# Altium footprint library CP_RADIAL_D16.0_P7.5_H27.0.PcbLib: 1 footprints
Each footprint in its own frame and in the unit in brackets; x right, y up, seen from the top. Pads: shape width x height; smd on the part's side, far side on the other; paste and mask are expansions set on the pad; w line width, h text height; cw(c..) or ccw(c..) is an arc to the next point about the centre after c.
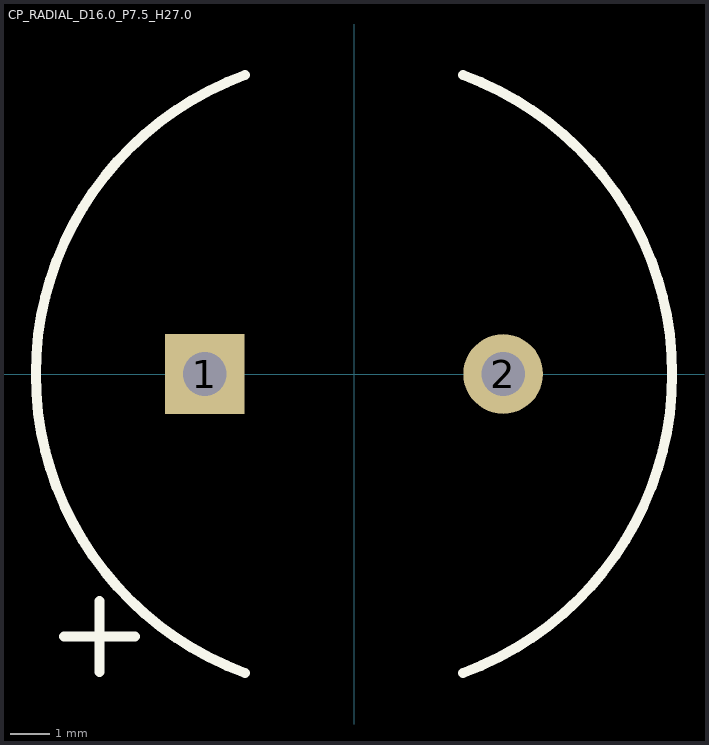
[diagram p0: the footprint, top view; thin cyan lines are the x and y axes]

## CP_RADIAL_D16.0_P7.5_H27.0 [mm]
pads (2):
  rect 2x2 hole 1.1: 1(-3.75,0)
  round 2 hole 1.1: 2(3.75,0)
Top Overlay:
  lines w0.254: -7.289,-6.6 -5.511,-6.6 ; -6.4,-7.489 -6.4,-5.711 ; -2.736,-7.518 cw(c0,0) -2.736,7.518 ; 2.736,-7.518 ccw(c0,0) 2.736,7.518
3D body: height 27, standoff 0, extent -8,-8 8,8